# EAGLE library part 2636-3102/0020-0000 (library con-wago_2636)
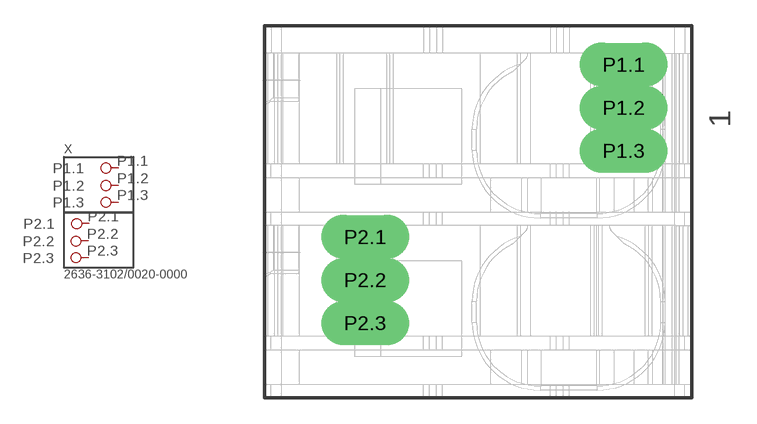
[diagram p13: symbol with the pads of P-2636-3102/0020-0000; footprint P-2636-3102/0020-0000]

Designator prefix X

## 2636-3102/0020-0000  [P-2636-3102/0020-0000]
P1.1  P1.1
P1.2  P1.2
P1.3  P1.3
P2.1  P2.1
P2.2  P2.2
P2.3  P2.3

## Footprint P-2636-3102/0020-0000 (pad centres in mm)
drill 1.7 pad 1.778 long: P1.1 0,-0.65; P1.2 0,-3.15; P1.3 0,-5.65; P2.1 -15,-10.65; P2.2 -15,-13.15; P2.3 -15,-15.65